# EAGLE library part LPC1102 (library micro-philips)
32-bit ARM Cortex-M0 microcontroller; 32 kB flash and 8 kB SRAM Auto generated by make-symbol-device-package-bsdl.ulp Rev. 43 Source: Data sheet <http://ics.nxp.com/products/lpc1000/datasheet/lpc1102.pdf>
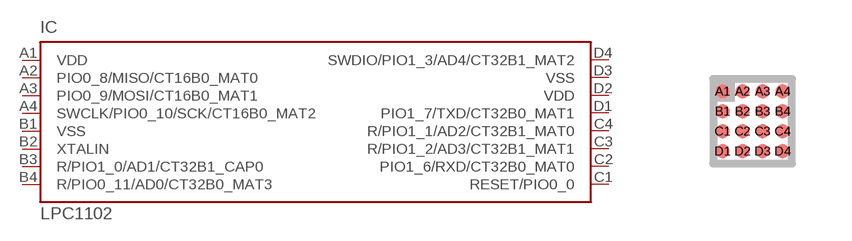
[diagram p24: symbol with the pads of WLCSP16; footprint WLCSP16]

Designator prefix IC

## LPC1102  [WLCSP16]
A1  VDD  pwr
A2  PIO0_8/MISO/CT16B0_MAT0
A3  PIO0_9/MOSI/CT16B0_MAT1
A4  SWCLK/PIO0_10/SCK/CT16B0_MAT2
B1  VSS  pwr
B2  XTALIN  in
B3  R/PIO1_0/AD1/CT32B1_CAP0
B4  R/PIO0_11/AD0/CT32B0_MAT3
C1  RESET/PIO0_0
C2  PIO1_6/RXD/CT32B0_MAT0
C3  R/PIO1_2/AD3/CT32B1_MAT1
C4  R/PIO1_1/AD2/CT32B1_MAT0
D1  PIO1_7/TXD/CT32B0_MAT1
D2  VDD  pwr
D3  VSS  pwr
D4  SWDIO/PIO1_3/AD4/CT32B1_MAT2

## Footprint WLCSP16 (pad centres in mm)
WLCSP16: wafer level chip-size package; 16 bumps; body 2.17 x 2.32 x 0.6 mm Auto generated by make-symbol-device-package-bsdl.ulp Rev. 43 Source: Data sheet <http://ics.nxp.com/products/lpc1000/datasheet/lpc1102.pdf>
smd 0.35 x 0.35: A1 -0.75,0.75; A2 -0.25,0.75; A3 0.25,0.75; A4 0.75,0.75; B1 -0.75,0.25; B2 -0.25,0.25; B3 0.25,0.25; B4 0.75,0.25; C1 -0.75,-0.25; C2 -0.25,-0.25; C3 0.25,-0.25; C4 0.75,-0.25; D1 -0.75,-0.75; D2 -0.25,-0.75; D3 0.25,-0.75; D4 0.75,-0.75